# Altium schematic symbol library SMT_TEST.Schlib: 1 symbol
Pins are listed as number, name and electrical type; pins without a type are passive.

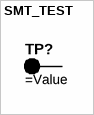
[diagram p0: symbol SMT_TEST]

## SMT_TEST
designator TP?  (no BOM)
pins: 1